# Altium footprint library PcbLib1.PcbLib: 2 footprints
Each footprint in its own frame and in the unit in brackets; x right, y up, seen from the top. Pads: shape width x height; smd on the part's side, far side on the other; paste and mask are expansions set on the pad; w line width, h text height; cw(c..) or ccw(c..) is an arc to the next point about the centre after c.
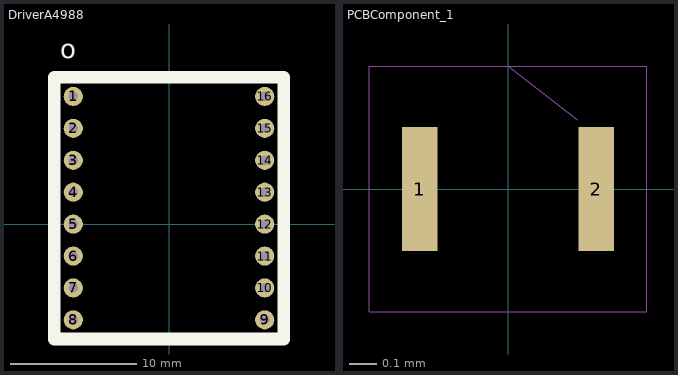
[diagram p0: the footprints below, top view; thin cyan lines are the x and y axes]

## DriverA4988 [mil]
pads (16):
  round 60 hole 30: 1(-300,400) 2(-300,300) 3(-300,200) 4(-300,100) 5(-300,0) 6(-300,-100) 7(-300,-200) 8(-300,-300) 9(300,-300) 10(300,-200) 11(300,-100) 12(300,0) 13(300,100) 14(300,200) 15(300,300) 16(300,400)
Top Overlay:
  lines w39.37: -360,-360 -360,460 360,460 360,-360 -360,-360
  text "o" at -340,520 h60

## PCBComponent_1 [mil]
pads (2):
  rect 5.1x17.8 smd: 1(-12.7,0) 2(12.7,0)
Top Assembly:
  lines w0.15: 0,17.7 10,10 ; -20,-17.7 -20,17.7 20,17.7 20,-17.7 -20,-17.7